# EAGLE library part W-00-9220-0820B_LED (library WIZnet)
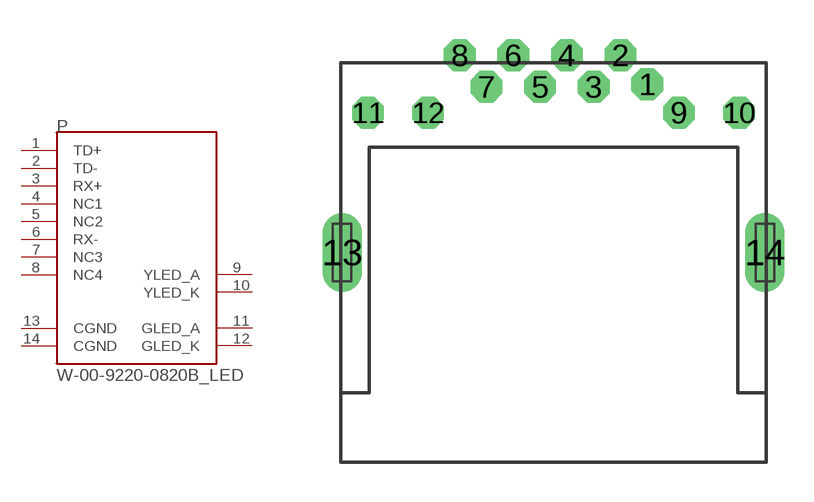
[diagram p8: symbol with the pads of W-00-9220-0820B_LED; footprint W-00-9220-0820B_LED]

Designator prefix P

## W-00-9220-0820B_LED  [W-00-9220-0820B_LED]
1  TD+  pas
2  TD-  pas
3  RX+  pas
4  NC1  pas
5  NC2  pas
6  RX-  pas
7  NC3  pas
8  NC4  pas
9  YLED_A  pas
10  YLED_K  pas
11  GLED_A  pas
12  GLED_K  pas
13  CGND  pas
14  CGND  pas

## Footprint W-00-9220-0820B_LED (pad centres in mm)
drill 0.7 octagon: 1 3.57,6.4; 2 2.55,7.5; 3 1.53,6.3; 4 0.51,7.5; 5 -0.51,6.3; 6 -1.53,7.5; 7 -2.55,6.3; 8 -3.57,7.5; 9 4.77,5.32; 10 7.06,5.32; 11 -7.06,5.32; 12 -4.77,5.32
drill 0.7 pad 1.5 long: 13 -8.04,0; 14 8.04,0